# EAGLE library part TRIODE_7BT (library wheat)
TRIODE W/ 2 DIODES, 7-PIN MINI, 7BT
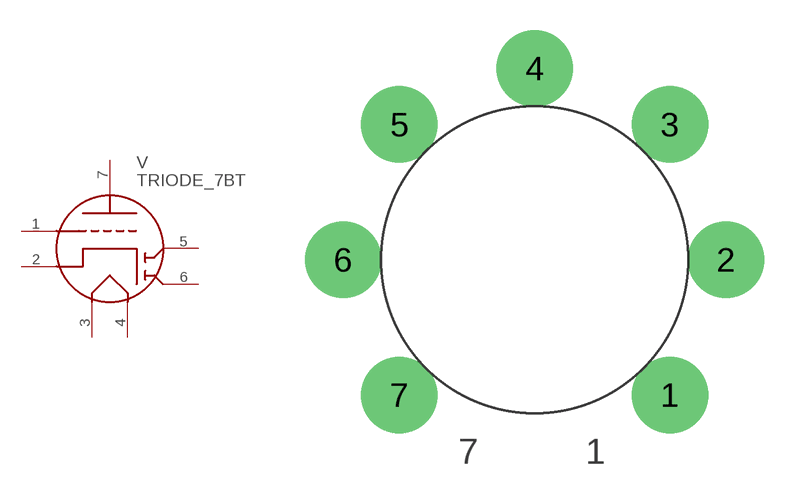
[diagram p15: symbol with the pads of MINI7_PCB; footprint MINI7_PCB]

Designator prefix V

## TRIODE_7BT  [MINI7_PCB]
1  1  pas
2  2  pas
3  3  pas
4  4  pas
5  5  pas
6  6  pas
7  7  pas

## Footprint MINI7_PCB (pad centres in mm)
TUBE SOCKET, 7-PIN MINI, .75 CIRCLE
drill 1.93 pad 3.81: 1 6.731,-6.731; 2 9.525,0; 3 6.731,6.731; 4 0,9.525; 5 -6.731,6.731; 6 -9.525,0; 7 -6.731,-6.731